# Altium schematic symbol library ERJ-6RBD1003V.SchLib: 1 symbol
Pins are listed as number, name and electrical type; pins without a type are passive.

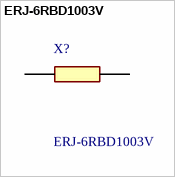
[diagram p0: symbol ERJ-6RBD1003V]

## ERJ-6RBD1003V
designator X?
Panasonic Precision Thick Film Surface Mount Resistor 0805 Case 100k +/-0.5% 0.1W +/-50ppm/C; Geometry.Height: 0.7mm; Mouser Part Number: 667-ERJ-6RBD1003V; Mouser Price/Stock: https://www.mouser.co.uk/ProductDetail/Panasonic/ERJ-6RBD1003V?qs=KTDjhDDUMAk65pXoED4GYQ%3D%3D; Manufacturer_Name: Panasonic; Manufacturer_Part_Number: ERJ-6RBD1003V; Datasheet Link: https://datasheet.datasheetarchive.com/originals/distributors/DKDS41/DSANUWW0038499.pdf
footprint RESC2012X70N
pins: 1, 2